# Altium footprint library Conn_JST_BM04B-PASS-1-TFT_LF_SN_eec_0.PcbLib: 1 footprints
Each footprint in its own frame and in the unit in brackets; x right, y up, seen from the top. Pads: shape width x height; smd on the part's side, far side on the other; paste and mask are expansions set on the pad; w line width, h text height; cw(c..) or ccw(c..) is an arc to the next point about the centre after c.
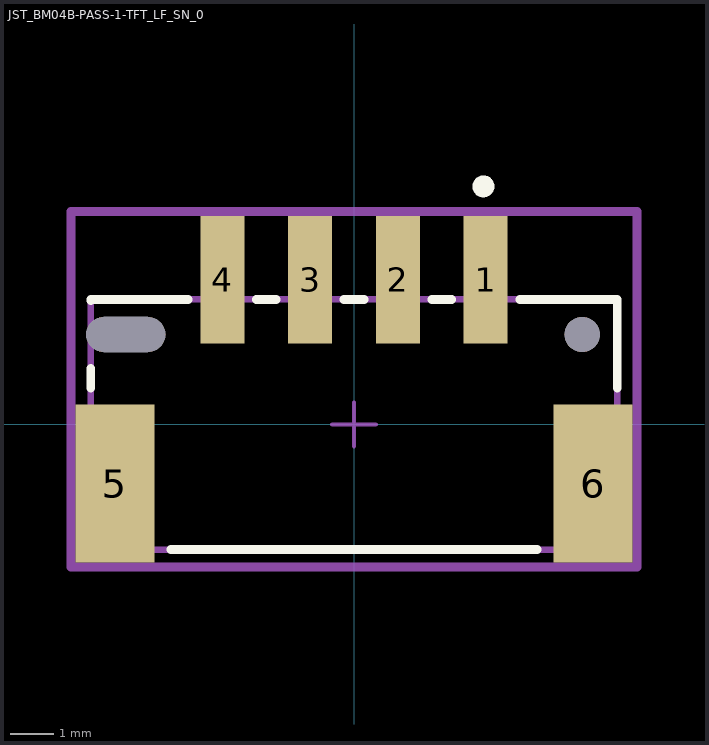
[diagram p0: the footprint, top view; thin cyan lines are the x and y axes]

## JST_BM04B-PASS-1-TFT_LF_SN_0 [mm]
pads (8):
  rect 1x2.9 smd paste+0 mask+0: 1(3,3.3) 2(1,3.3) 3(-1,3.3) 4(-3,3.3)
  rect 1.8x3.6 smd paste+0 mask+0: 5(-5.45,-1.35) 6(5.45,-1.35)
  oval 1.8x0.8 hole 0.8 slot 1.8 at 0 deg unplated paste-1000 mask+0: ""(-5.2,2.05)
  round 0.8 hole 0.8 unplated paste-1000 mask+0: ""(5.2,2.05)
Top Overlay:
  circle w0.25: c2.95,5.425 r0.125
  lines w0.2: -6,0.825 -6,1.275 ; -6,2.825 -6,2.85 -3.775,2.85 ; -4.175,-2.85 4.175,-2.85 ; -2.225,2.85 -1.775,2.85 ; -0.225,2.85 0.225,2.85 ; 1.775,2.85 2.225,2.85 ; 3.775,2.85 6,2.85 6,0.825
Mechanical 10:
  lines w0.2: -6.45,-3.25 6.45,-3.25 6.45,4.85 -6.45,4.85 -6.45,-3.25
  text ".Designator" at 0,0.8 h1
Mechanical 12:
  lines w0.15: -6,-2.85 6,-2.85 6,2.85 -6,2.85 -6,-2.85
Mechanical 15:
  lines w0.1: -0.5,0 0.5,0 ; 0,-0.5 0,0.5
  lines w0.2: -6.45,-3.25 6.45,-3.25 6.45,4.85 -6.45,4.85 -6.45,-3.25
3D body "Conn_JST_BM04B-PASS-1-TFT_LF_SN_eec.STEP": height 0.25, standoff 0, extent -6.45,-3.25 6.45,4.85